# Altium footprint library RLC.PcbLib: 144 footprints (part 6 of 9)
Each footprint in its own frame and in the unit in brackets; x right, y up, seen from the top. Pads: shape width x height; smd on the part's side, far side on the other; paste and mask are expansions set on the pad; w line width, h text height; cw(c..) or ccw(c..) is an arc to the next point about the centre after c.
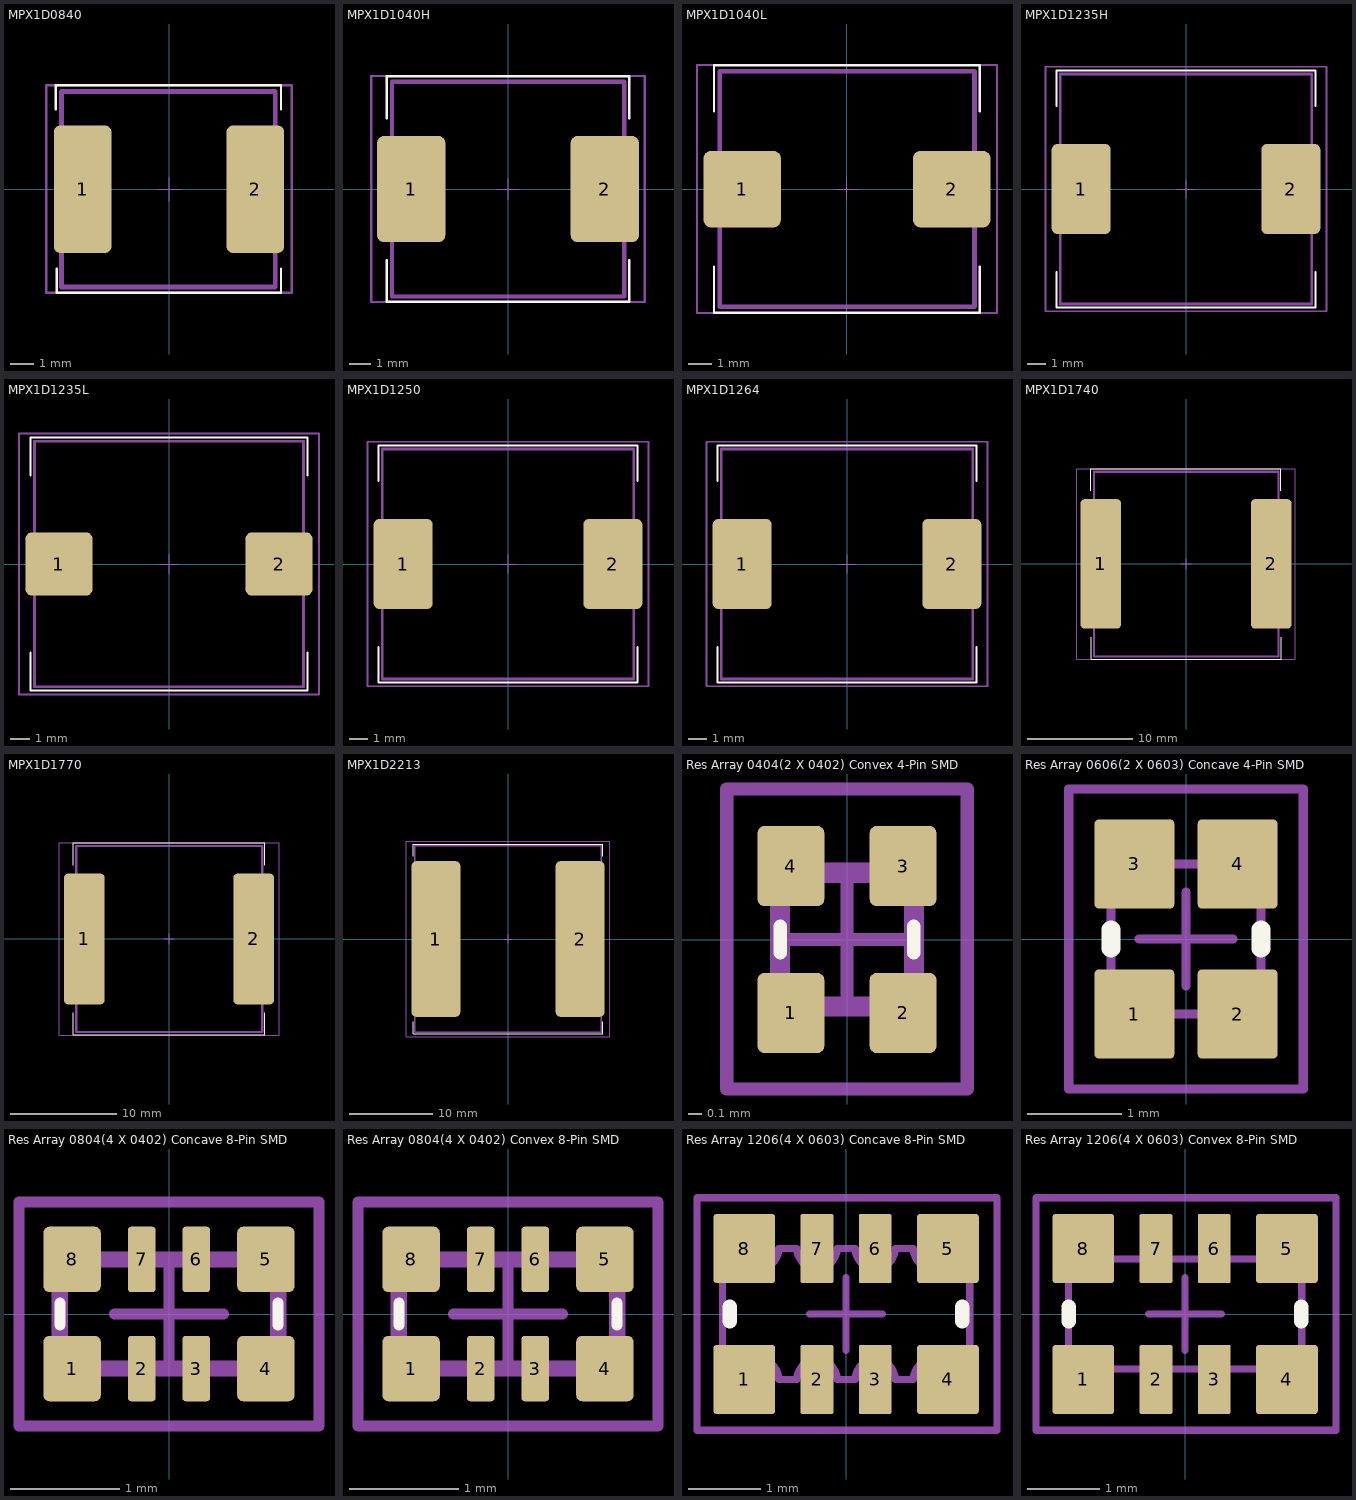
[diagram p5: the footprints below, top view; thin cyan lines are the x and y axes]

## MPX1D0840 [mil] "MPX1D0840 = 8x8x4.0 mm"
height 157.48
pads (2):
  rrect20% 95x210 smd: 1(-142.52,0) 2(142.52,0)
Top Overlay:
  lines w3.94: -186.78,131.97 -186.78,171.34 184.75,171.34 184.75,131.97 ; -185.33,-131.21 -185.33,-170.58 184.85,-170.58 184.85,-131.21
Top Designator:
  text ".Designator" at -118.48,187.07 h23.62
Top Assembly:
  lines w7.87: -177.17,-161.42 -177.17,161.42 175.47,161.42 175.47,-161.42 -177.17,-161.42
Top Courtyard:
  lines w1.97: -19.69,0 19.68,0 ; 0,-19.69 0,19.68
  lines w3.94: -202.61,-170.63 202.34,-170.63 202.34,171.35 -202.61,171.35 -202.61,-170.63
3D body "MPX1D0840L470.stp": height 159.07, standoff 1.57, extent -175.19,-161.41 175.2,161.42

## MPX1D1040H [mil] "MPX1D1040 = 10x10x4.0 mm"
height 157.48
pads (2):
  rrect20% 125x195 smd: 1(-177.52,0) 2(177.52,0)
Top Overlay:
  lines w3.94: -222.3,-129.92 -222.3,-206.52 222.3,-206.52 222.3,-129.92 ; -222.3,129.92 -222.3,206.72 222.3,206.72 222.3,129.92
Top Designator:
  text ".Designator" at -118.07,228.35 h23.62
Top Assembly:
  lines w7.87: -212.6,-196.85 213.26,-196.85 213.26,196.85 -212.6,196.85 -212.6,-196.85
Top Courtyard:
  lines w1.97: -19.69,0 19.68,0 ; 0,-19.69 0,19.68
  lines w3.94: -250.65,-207.09 250.84,-207.09 250.84,207.26 -250.65,207.26 -250.65,-207.09
3D body "Inductor_SMD_AMPLF_1040.STEP": height 159.84, standoff 1.97, extent -212.59,-196.85 212.61,196.85

## MPX1D1040L [mm] "MPX1D1040 = 10x10x4.0 mm"
height 4
pads (2):
  rrect20% 3.3x3.251 smd: 1(-4.45,0) 2(4.45,0)
Top Overlay:
  lines w0.1: -5.646,-3.3 -5.646,-5.246 5.646,-5.246 5.646,-3.3 ; -5.646,3.3 -5.646,5.251 5.646,5.251 5.646,3.3
Top Designator:
  text ".Designator" at -2.999,5.8 h0.6
Top Assembly:
  lines w0.2: -5.4,-5 5.417,-5 5.417,5 -5.4,5 -5.4,-5
Top Courtyard:
  lines w0.05: -0.5,0 0.5,0 ; 0,-0.5 0,0.5
  lines w0.1: -6.366,-5.26 6.371,-5.26 6.371,5.265 -6.366,5.265 -6.366,-5.26
3D body "Inductor_SMD_AMPLF_1040.STEP": height 4.06, standoff 0.05, extent -5.4,-4.9 5.4,5.1

## MPX1D1235H [mil] "MPX1D1235 = 12x12x3.5 mm"
height 137.8
pads (2):
  rrect20% 127.5x195 smd: 1(-226.26,0) 2(226.26,0)
Top Overlay:
  lines w3.94: -279.63,-179.1 -279.63,-255.91 279.63,-255.91 279.63,-179.1 ; -279.63,179.1 -279.63,255.91 279.63,255.91 279.63,179.1
Top Designator:
  text ".Designator" at -118.07,283.47 h23.62
Top Assembly:
  lines w5.91: -271.65,-248.03 271.65,-248.03 271.65,248.03 -271.65,248.03 -271.65,-248.03
Top Courtyard:
  lines w1.97: -19.69,0 19.68,0 ; 0,-19.69 0,19.68
  lines w3.94: -303.15,-263.78 303.15,-263.78 303.15,263.78 -303.15,263.78 -303.15,-263.78
3D body "Inductor_SMD_AMPLF_1250.STEP": height 199.21, standoff 1.97, extent -271.65,-248.03 271.66,248.03

## MPX1D1235L [mm] "MPX1D1235 = 12x12x3.5 mm"
height 3.5
pads (2):
  rrect20% 3.438x3.251 smd: 1(-5.647,0) 2(5.647,0)
Top Overlay:
  lines w0.1: -7.103,-4.549 -7.103,-6.5 7.103,-6.5 7.103,-4.549 ; -7.103,4.549 -7.103,6.5 7.103,6.5 7.103,4.549
Top Designator:
  text ".Designator" at -2.999,7.2 h0.6
Top Assembly:
  lines w0.15: -6.9,-6.3 -6.9,6.3 6.9,6.3 6.9,-6.3 -6.9,-6.3
Top Courtyard:
  lines w0.05: -0.5,0 0.5,0 ; 0,-0.5 0,0.5
  lines w0.1: -7.7,-6.7 -7.7,6.7 7.7,6.7 7.7,-6.7 -7.7,-6.7
3D body "Inductor_SMD_AMPLF_1250.STEP": height 5.06, standoff 0.05, extent -6.9,-6.3 6.9,6.3

## MPX1D1250 [mil] "MPX1D1250 = 12x12x5.0 mm"
height 196.85
pads (2):
  rrect20% 127.5x195 smd: 1(-226.26,0) 2(226.26,0)
Top Overlay:
  lines w3.94: -279.63,-179.1 -279.63,-255.91 279.63,-255.91 279.63,-179.1 ; -279.63,179.1 -279.63,255.91 279.63,255.91 279.63,179.1
Top Designator:
  text ".Designator" at -118.07,283.47 h23.62
Top Assembly:
  lines w5.91: -271.65,-248.03 271.65,-248.03 271.65,248.03 -271.65,248.03 -271.65,-248.03
Top Courtyard:
  lines w1.97: -19.69,0 19.68,0 ; 0,-19.69 0,19.68
  lines w3.94: -303.15,-263.78 303.15,-263.78 303.15,263.78 -303.15,263.78 -303.15,-263.78
3D body "Inductor_SMD_AMPLF_1250.STEP": height 199.21, standoff 1.97, extent -271.65,-248.03 271.66,248.03

## MPX1D1264 [mil] "MPX1D1264 = 12x12x6.4 mm"
height 251.97
pads (2):
  rrect20% 127.5x195 smd: 1(-226.26,0) 2(226.26,0)
Top Overlay:
  lines w3.94: -279.63,-179.1 -279.63,-255.91 279.63,-255.91 279.63,-179.1 ; -279.63,179.1 -279.63,255.91 279.63,255.91 279.63,179.1
Top Designator:
  text ".Designator" at -118.07,283.47 h23.62
Top Assembly:
  lines w5.91: -271.65,-248.03 -271.65,248.03 271.65,248.03 271.65,-248.03 -271.65,-248.03
Top Courtyard:
  lines w1.97: -19.69,0 19.68,0 ; 0,-19.69 0,19.68
  lines w3.94: -303.15,-263.78 -303.15,263.78 303.15,263.78 303.15,-263.78 -303.15,-263.78
3D body "Inductor_SMD_AMPLF_1260.STEP": height 238.58, standoff 1.97, extent -271.65,-248.03 271.66,248.03

## MPX1D1740 [mm] "D1740 = 17x17x4.0 mm"
height 4
pads (2):
  rrect20% 3.85x12.35 smd: 1(-8.125,0) 2(8.125,0)
Top Overlay:
  lines w0.1: -9.06,6.971 -9.06,9.071 9.026,9.071 9.026,6.971 ; -9.026,-6.971 -9.026,-9.071 9.06,-9.071 9.06,-6.971
Top Designator:
  text ".Designator" at -2.999,9.7 h0.6
Top Assembly:
  lines w0.2: -8.76,-8.806 -8.76,8.794 8.813,8.794 8.813,-8.806 -8.76,-8.806
Top Courtyard:
  lines w0.05: -0.5,0 0.5,0 ; 0,-0.5 0,0.5
  lines w0.1: -10.394,-9.095 -10.394,9.087 10.396,9.087 10.396,-9.095 -10.394,-9.095
3D body "MPX1D1770L101.stp": height 7.1, standoff 0.1, extent -8.75,-8.8 8.75,8.8

## MPX1D1770 [mm] "MPX1D1770 = 17x17x7.0 mm"
height 7
pads (2):
  rrect20% 3.85x12.35 smd: 1(-8,0) 2(8,0)
Top Overlay:
  lines w0.1: -9.06,6.971 -9.06,9.071 9.026,9.071 9.026,6.971 ; -9.026,-6.971 -9.026,-9.071 9.06,-9.071 9.06,-6.971
Top Designator:
  text ".Designator" at -2.999,9.7 h0.6
Top Assembly:
  lines w0.2: -8.76,-8.806 8.813,-8.806 8.813,8.794 -8.76,8.794 -8.76,-8.806
Top Courtyard:
  lines w0.05: -0.5,0 0.5,0 ; 0,-0.5 0,0.5
  lines w0.1: -10.394,-9.095 10.396,-9.095 10.396,9.087 -10.394,9.087 -10.394,-9.095
3D body "IND_BOURNS_SRP1770TA.stp": height 7, standoff 0, extent -8.95,-8.45 8.95,8.45

## MPX1D2213 [mm] "MPX1D2213 = 22x22x13.0 mm"
height 13
pads (2):
  rrect20% 5.9x18.8 smd: 1(-8.7,0) 2(8.7,0)
Top Overlay:
  lines w0.1: -11.427,-10 -11.427,-11.424 11.427,-11.424 11.427,-10 ; -11.427,10 -11.427,11.424 11.427,11.424 11.427,10
Top Designator:
  text ".Designator" at -2.999,12.5 h0.6
Top Assembly:
  lines w0.2: -11.25,-11.25 -11.25,11.25 11.25,11.25 11.25,-11.25 -11.25,-11.25
Top Courtyard:
  lines w0.05: -0.5,0 0.5,0 ; 0,-0.5 0,0.5
  lines w0.1: -12.3,-11.8 12.3,-11.8 12.3,11.8 -12.3,11.8 -12.3,-11.8

## Res Array 0404(2 X 0402) Convex 4-Pin SMD [mm]
pads (4):
  rrect20% 0.5x0.6 smd: 1(-0.42,-0.55) 2(0.42,-0.55) 3(0.42,0.55) 4(-0.42,0.55)
Top Overlay:
  lines w0.1: -0.5,-0.1 -0.5,0.1 ; 0.5,-0.1 0.5,0.1
Top Designator:
  text ".Designator" at -2.999,1.55 h0.6
Top Assembly:
  lines w0.15: -0.5,-0.5 0.5,-0.5 0.5,0.5 -0.5,0.5 -0.5,-0.5
Top Courtyard:
  lines w0.1: -0.5,0 0.5,0 ; 0,-0.5 0,0.5 ; -0.9,-1.119 0.9,-1.119 0.9,1.127 -0.9,1.127 -0.9,-1.119
3D body "YC122-JR-073K3L.stp": height 0.32, standoff 0.02, extent -0.5,-0.5 0.5,0.5

## Res Array 0606(2 X 0603) Concave 4-Pin SMD [mm]
height 0.5
pads (4):
  rrect10% 0.85x0.95 smd: 1(-0.55,-0.8) 2(0.55,-0.8) 3(-0.55,0.8) 4(0.55,0.8)
Top Overlay:
  lines w0.2: -0.8,-0.1 -0.8,0.1 ; 0.8,-0.1 0.8,0.1
Top Designator:
  text ".Designator" at -2.774,1.925 h0.6
Top Assembly:
  lines w0.1: -0.8,-0.8 0.8,-0.8 0.8,0.8 -0.8,0.8 -0.8,-0.8
Top Courtyard:
  lines w0.1: -0.5,0 0.5,0 ; 0,-0.5 0,0.5 ; -1.25,-1.6 -1.25,1.6 1.25,1.6 1.25,-1.6 -1.25,-1.6
3D body "RESISTOR_ARRAY_SMD_0606.step": height 0.45, standoff 0, extent -0.8,-0.805 0.8,0.805

## Res Array 0804(4 X 0402) Concave 8-Pin SMD [mm] "4 resistors in 2.0 mm ? 1.0 mm size / 0804 inch size"
pads (8):
  rrect20% 0.525x0.6 smd: 1(-0.888,-0.5) 4(0.888,-0.5) 5(0.888,0.5) 8(-0.888,0.5)
  rrect20% 0.25x0.6 smd: 2(-0.25,-0.5) 3(0.25,-0.5) 6(0.25,0.5) 7(-0.25,0.5)
Top Overlay:
  lines w0.1: -1,-0.1 -1,0.1 ; 1,-0.1 1,0.1
Top Designator:
  text ".Designator" at -2.999,1.35 h0.6
Top Assembly:
  lines w0.15: -1,-0.5 1,-0.5 1,0.5 -1,0.5 -1,-0.5
Top Courtyard:
  lines w0.1: -0.5,0 0.5,0 ; 0,-0.5 0,0.5 ; -1.375,-1.025 1.375,-1.025 1.375,1.025 -1.375,1.025 -1.375,-1.025
3D body "User Library-CAT10-000.STEP": height 0.4, standoff 0, extent -1,-0.5 1,0.5

## Res Array 0804(4 X 0402) Convex 8-Pin SMD [mm] "4 resistors in 2.0 mm ? 1.0 mm size / 0804 inch size"
pads (8):
  rrect20% 0.525x0.6 smd: 1(-0.888,-0.5) 4(0.888,-0.5) 5(0.888,0.5) 8(-0.888,0.5)
  rrect20% 0.25x0.6 smd: 2(-0.25,-0.5) 3(0.25,-0.5) 6(0.25,0.5) 7(-0.25,0.5)
Top Overlay:
  lines w0.1: -1,-0.1 -1,0.1 ; 1,-0.1 1,0.1
Top Designator:
  text ".Designator" at -2.999,1.35 h0.6
Top Assembly:
  lines w0.15: -1,-0.5 1,-0.5 1,0.5 -1,0.5 -1,-0.5
Top Courtyard:
  lines w0.1: -0.5,0 0.5,0 ; 0,-0.5 0,0.5 ; -1.375,-1.025 1.375,-1.025 1.375,1.025 -1.375,1.025 -1.375,-1.025
3D body "RESNET - 0804 Convex.step": height 0.56, standoff 0, extent -1.025,-0.525 1.025,0.525

## Res Array 1206(4 X 0603) Concave 8-Pin SMD [mm] "Chip Array, Concave, 8-Leads, Pitch 0,80mm,  Body 3,20x1,60mm,  IPC Medium Density"
height 0.6
pads (8):
  rrect10% 0.85x0.95 smd: 1(-1.4,-0.9) 4(1.4,-0.9) 5(1.4,0.9) 8(-1.4,0.9)
  rrect10% 0.45x0.95 smd: 2(-0.4,-0.9) 3(0.4,-0.9) 6(0.4,0.9) 7(-0.4,0.9)
Top Overlay:
  lines w0.2: -1.6,-0.1 -1.6,0.1 ; 1.6,-0.1 1.6,0.1
Sheet:
  lines w0.05: -2.05,-1.6 2.075,-1.6 2.075,1.6 -2.05,1.6 -2.05,-1.6
Top Designator:
  text ".Designator" at -2.999,2.025 h0.6
Top Assembly:
  lines w0.1: -1.7,-0.9 -1.475,-0.9 cw(c-1.2,-0.9) -0.925,-0.9 -0.675,-0.9 cw(c-0.4,-0.9) -0.125,-0.9 0.125,-0.9 cw(c0.4,-0.9) 0.675,-0.9 0.925,-0.9 cw(c1.2,-0.9) 1.475,-0.9 1.7,-0.9 1.7,0.9 1.475,0.9 cw(c1.2,0.9) 0.925,0.9 0.675,0.9 cw(c0.4,0.9) 0.125,0.9 -0.125,0.9 cw(c-0.4,0.9) -0.675,0.9 -0.925,0.9 cw(c-1.2,0.9) -1.475,0.9 -1.7,0.9 -1.7,-0.9
Top Courtyard:
  lines w0.1: -0.5,0 0.5,0 ; 0,-0.5 0,0.5 ; -2.05,-1.6 -2.05,1.6 2.075,1.6 2.075,-1.6 -2.05,-1.6
3D body "CAC-80P319X159-8N.step": height 0.6, standoff 0, extent -1.7,-0.95 1.7,0.95

## Res Array 1206(4 X 0603) Convex 8-Pin SMD [mm] "Chip Array, Concave, 8-Leads, Pitch 0,80mm,  Body 3,20x1,60mm,  IPC Medium Density"
height 0.6
pads (8):
  rrect10% 0.85x0.95 smd: 1(-1.4,-0.9) 4(1.4,-0.9) 5(1.4,0.9) 8(-1.4,0.9)
  rrect10% 0.45x0.95 smd: 2(-0.4,-0.9) 3(0.4,-0.9) 6(0.4,0.9) 7(-0.4,0.9)
Top Overlay:
  lines w0.2: -1.6,-0.1 -1.6,0.1 ; 1.6,-0.1 1.6,0.1
Sheet:
  lines w0.05: -2.05,-1.6 -2.05,1.6 2.075,1.6 2.075,-1.6 -2.05,-1.6
Top Designator:
  text ".Designator" at -2.983,2.014 h0.6
Top Assembly:
  lines w0.1: -1.116,-0.76 -1.116,-0.895 -1.603,-0.895 -1.603,-0.756 ; -1.116,0.76 -1.116,0.9 -1.603,0.9 -1.603,0.756 ; -0.534,-0.756 -0.534,-0.889 -0.279,-0.889 -0.279,-0.756 ; -0.521,0.756 -0.521,0.895 -0.266,0.895 -0.266,0.756 ; 0.266,-0.756 0.266,-0.89 0.521,-0.89 0.521,-0.756 ; 0.279,0.756 0.279,0.898 0.534,0.898 0.534,0.756 ; 1.116,-0.76 1.116,-0.898 1.603,-0.898 1.603,-0.756 ; 1.116,0.76 1.116,0.895 1.603,0.895 1.603,0.756 ; -1.603,-0.756 1.603,-0.756 ; -1.603,-0.756 -1.603,0.756 ; -1.603,0.756 1.603,0.756 ; 1.603,-0.756 1.603,0.756
Top Courtyard:
  lines w0.1: -0.5,0 0.5,0 ; 0,-0.5 0,0.5 ; -2.05,-1.6 2.075,-1.6 2.075,1.6 -2.05,1.6 -2.05,-1.6
3D body "RESNET - 1206 Convex.step": height 0.71, standoff 0, extent -1.625,-0.837 1.625,0.838